# Altium footprint library MainPcblib.PcbLib: 316 footprints (part 5 of 20)
Each footprint in its own frame and in the unit in brackets; x right, y up, seen from the top. Pads: shape width x height; smd on the part's side, far side on the other; paste and mask are expansions set on the pad; w line width, h text height; cw(c..) or ccw(c..) is an arc to the next point about the centre after c.
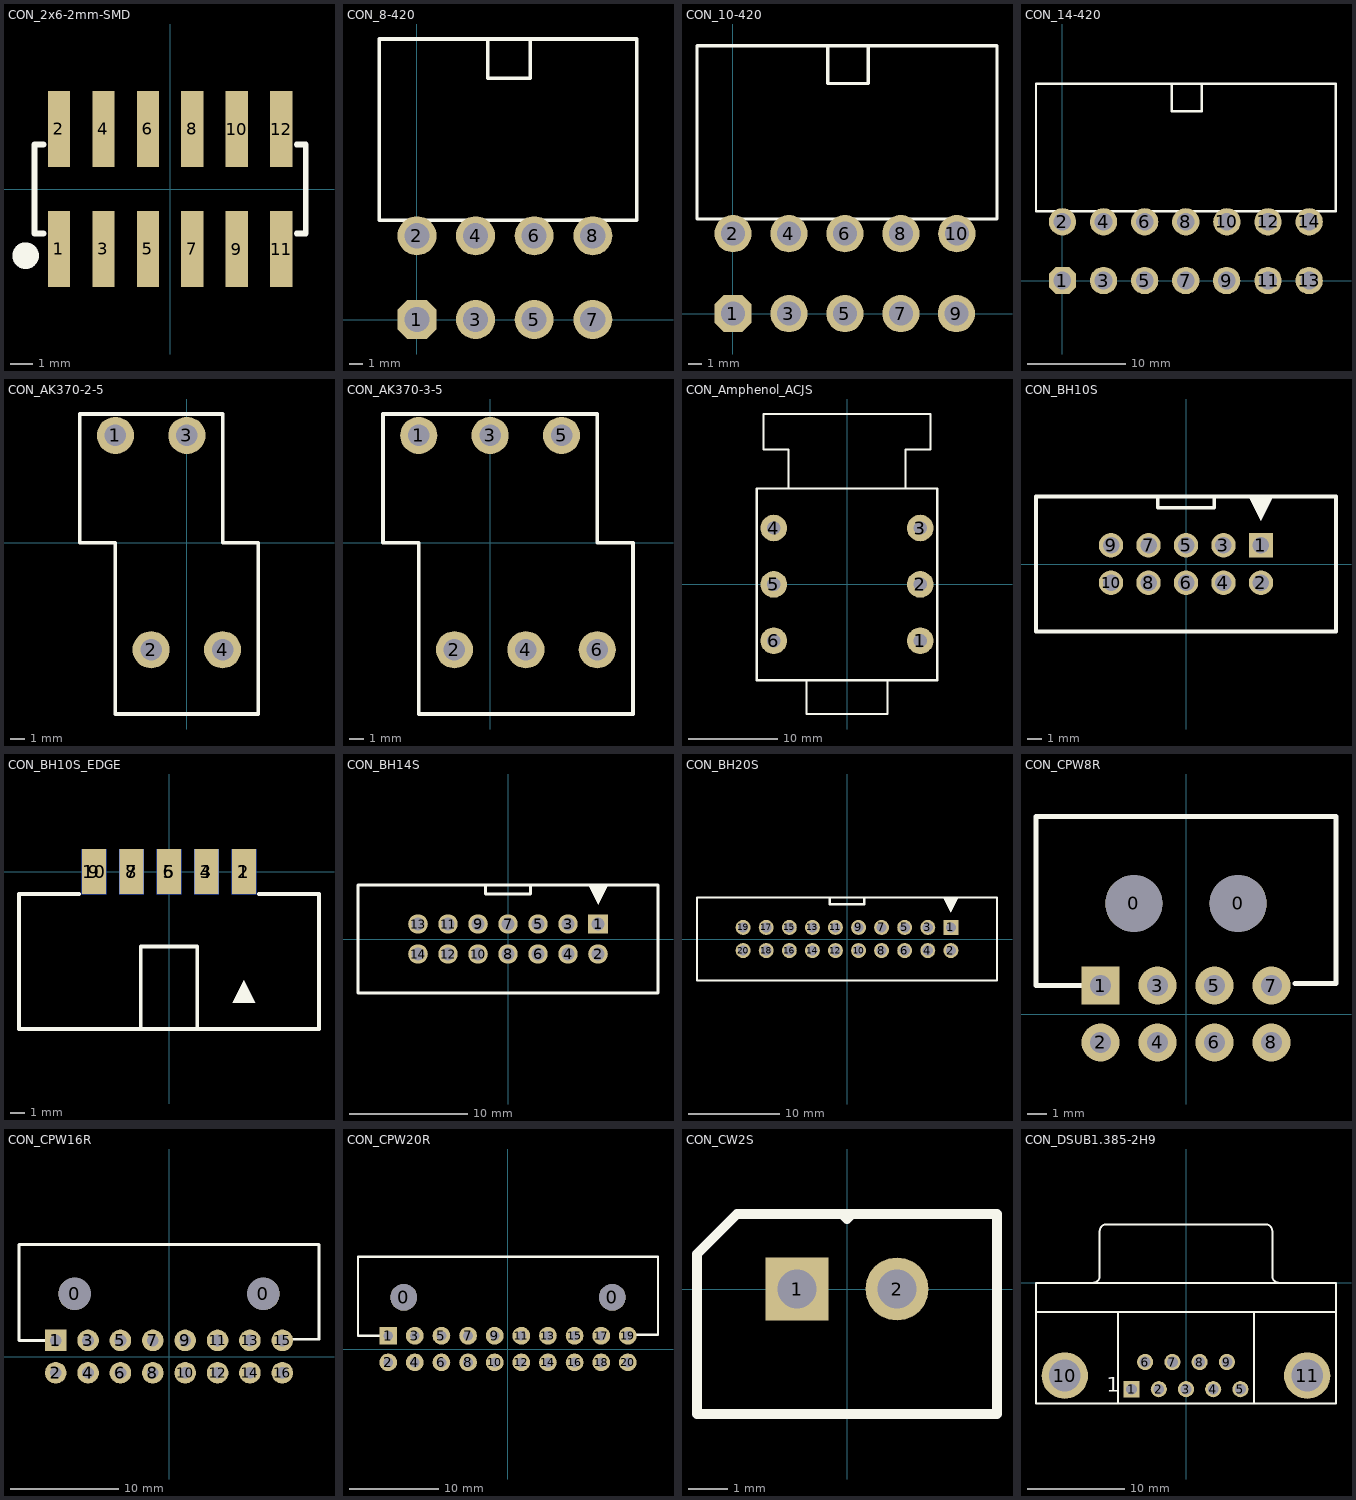
[diagram p4: the footprints below, top view; thin cyan lines are the x and y axes]

## CON_2x6-2mm-SMD [mm]
pads (12):
  rect 1x3.4 smd paste+0: 1(-5,-2.7)
  rect 1x3.4 smd: 2(-5,2.7) 3(-3,-2.7) 4(-3,2.7) 5(-1,-2.7) 6(-1,2.7) 7(1,-2.7) 8(1,2.7) 9(3,-2.7) 10(3,2.7) 11(5,-2.7) 12(5,2.7)
Top Overlay:
  circle w0.6: c-6.5,-3 r0.3
  lines w0.254: -5.7,-2 -6.1,-2 -6.1,2 -5.7,2 ; 5.7,-2 6.1,-2 6.1,2 5.7,2

## CON_8-420 [mm]
pads (8):
  oct 2.794x2.794 hole 1.8: 1(0,0)
  round 2.794 hole 1.8: 2(0,6) 3(4.2,0) 4(4.2,6) 5(8.4,0) 6(8.4,6) 7(12.6,0) 8(12.6,6)
Top Overlay:
  lines w0.254: 5.08,20.052 5.08,17.272 8.128,17.272 8.128,20.1 ; 15.744,20.1 15.744,7.1 -2.7,7.1 -2.7,20.1 15.748,20.1

## CON_10-420 [mm]
pads (10):
  oct 2.794x2.794 hole 1.8: 1(0,0)
  round 2.794 hole 1.8: 2(0,6) 3(4.2,0) 4(4.2,6) 5(8.4,0) 6(8.4,6) 7(12.6,0) 8(12.6,6) 9(16.764,0) 10(16.8,6)
Top Overlay:
  lines w0.254: 7.112,20.052 7.112,17.272 10.16,17.272 10.16,20.1 ; 19.808,20.1 19.808,7.1 -2.7,7.1 -2.7,20.1 19.812,20.1

## CON_14-420 [mil]
pads (14):
  oct 110x110 hole 70.87: 1(0,0)
  round 110 hole 70.87: 2(0,236.22) 3(165.35,0) 4(165.35,236.22) 5(330.71,0) 6(330.71,236.22) 7(496.06,0) 8(496.06,236.22) 9(660,0) 10(661.42,236.22) 11(826.66,0) 12(826.66,236.22) 13(992.12,0) 14(992.12,236.22)
Top Overlay:
  lines w10: 440,789.45 440,680 560,680 560,791.34 ; 1099.84,791.34 1099.84,279.53 -106.3,279.53 -106.3,791.34 1100,791.34

## CON_AK370-2-5 [mm]
pads (4):
  round 2.6 hole 1.5: 1(-5,7.5) 2(-2.5,-7.5) 3(0,7.5) 4(2.5,-7.5)
Top Overlay:
  lines w0.254: -7.5,0 -7.5,9 2.5,9 2.5,0 5,0 5,-12 -5,-12 -5,-3 -5,0 -7.5,0

## CON_AK370-3-5 [mm]
pads (6):
  round 2.6 hole 1.5: 1(-5,7.5) 2(-2.5,-7.5) 3(0,7.5) 4(2.5,-7.5) 5(5,7.5) 6(7.5,-7.5)
Top Overlay:
  lines w0.254: -7.5,0 -5,0 -5,-3 -5,-12 10,-12 10,0 7.5,0 7.5,9 -7.5,9 -7.5,0

## CON_Amphenol_ACJS [mm] "1/4in audio socket"
height 17
pads (6):
  round 3 hole 1.5: 1(8.255,-6.35) 2(8.255,0) 3(8.255,6.35) 4(-8.255,6.35) 5(-8.255,0) 6(-8.255,-6.35)
Top Overlay:
  lines w0.254: -6.6,10.795 -6.6,15.2 ; -6.6,15.2 -9.4,15.2 -9.4,19.2 9.4,19.2 9.4,15.2 6.6,15.2 ; -4.572,-10.795 -4.572,-14.605 4.572,-14.605 4.572,-10.795 ; 6.6,10.795 6.6,15.2 ; -10.16,-10.795 -10.16,10.795 10.16,10.795 10.16,-10.795 -10.16,-10.795

## CON_BH10S [mil] "BH-10"
height 472.44
pads (10):
  rect 65x65 hole 44: 1(200,50)
  round 65 hole 44: 2(200,-50) 3(100,50) 4(100,-50) 5(0,50) 6(0,-50) 7(-100,50) 8(-100,-50) 9(-200,50) 10(-200,-50)
Top Overlay:
  region: 200,115 230,175 170,175
  lines w9.84: -75,180 -75,150 75,150 75,180 ; -400,-180 400,-180 400,180 -400,180 -400,-180

## CON_BH10S_EDGE [mil] "BH-10 mounted on the board edge"
pads (10):
  rect 65x120 smd: 1(200,0) 3(100,0) 5(0,0) 7(-100,0) 9(-200,0)
  rect 65x120 smd far side: 2(200,0) 4(100,0) 6(0,0) 8(-100,0) 10(-200,0)
Top Overlay:
  region: 200,-290 170,-350 230,-350
  lines w9.84: -240,-60 -400,-60 -400,-420 400,-420 400,-60 240,-60 ; -75,-420 -75,-200 75,-200 75,-420

## CON_BH14S [mil] "BH-14"
height 472.44
pads (14):
  rect 65x65 hole 44: 1(300,50)
  round 65 hole 44: 2(300,-50) 3(200,50) 4(200,-50) 5(100,50) 6(100,-50) 7(0,50) 8(0,-50) 9(-100,50) 10(-100,-50) 11(-200,50) 12(-200,-50) 13(-300,50) 14(-300,-50)
Top Overlay:
  region: 300,115 330,175 270,175
  lines w9.84: -75,180 -75,150 75,150 75,180 ; -500,-180 -500,180 500,180 500,-180 -500,-180

## CON_BH20S [mil]
height 472.44
pads (20):
  rect 65x65 hole 44: 1(450,50)
  round 65 hole 44: 2(450,-50) 3(350,50) 4(350,-50) 5(250,50) 6(250,-50) 7(150,50) 8(150,-50) 9(50,50) 10(50,-50) 11(-50,50) 12(-50,-50) 13(-150,50) 14(-150,-50) 15(-250,50) 16(-250,-50) 17(-350,50) 18(-350,-50) 19(-450,50) 20(-450,-50)
Top Overlay:
  region: 450,115 480,175 420,175
  lines w9.84: -75,180 -75,150 75,150 75,180 ; -650,-180 -650,180 650,180 650,-180 -650,-180

## CON_CPW8R [mm] "CON_CPW"
pads (10):
  round 3 hole 3: 0(-2.75,5.82) 0(2.75,5.82)
  rect 2x2 hole 1.1: 1(-4.5,1.5)
  round 2 hole 1.1: 2(-4.5,-1.5) 3(-1.5,1.5) 4(-1.5,-1.5) 5(1.5,1.5) 6(1.5,-1.5) 7(4.5,1.5) 8(4.5,-1.5)
Top Overlay:
  lines w0.254: -5.4,1.5 -7.9,1.5 -7.9,10.4 7.9,10.4 7.9,1.6 5.746,1.6

## CON_CPW16R [mm] "CON_CPW"
pads (18):
  round 3 hole 3: 0(-8.75,5.82) 0(8.75,5.82)
  rect 2x2 hole 1.1: 1(-10.5,1.5)
  round 2 hole 1.1: 2(-10.5,-1.5) 3(-7.5,1.5) 4(-7.5,-1.5) 5(-4.5,1.5) 6(-4.5,-1.5) 7(-1.5,1.5) 8(-1.5,-1.5) 9(1.5,1.5) 10(1.5,-1.5) 11(4.5,1.5) 12(4.5,-1.5) 13(7.5,1.5) 14(7.5,-1.5) 15(10.5,1.5) 16(10.5,-1.5)
Top Overlay:
  lines w0.254: -11.4,1.5 -13.9,1.5 -13.9,10.4 13.9,10.4 13.9,1.6 11.4,1.6

## CON_CPW20R [mm] "CON_CPW"
pads (22):
  round 3 hole 3: 0(-11.75,5.82) 0(11.75,5.82)
  rect 2x2 hole 1.1: 1(-13.5,1.5)
  round 2 hole 1.1: 2(-13.5,-1.5) 3(-10.5,1.5) 4(-10.5,-1.5) 5(-7.5,1.5) 6(-7.5,-1.5) 7(-4.5,1.5) 8(-4.5,-1.5) 9(-1.5,1.5) 10(-1.5,-1.5) 11(1.5,1.5) 12(1.5,-1.5) 13(4.5,1.5) 14(4.5,-1.5) 15(7.5,1.5) 16(7.5,-1.5) 17(10.5,1.5) 18(10.5,-1.5) 19(13.5,1.5) 20(13.5,-1.5)
Top Overlay:
  lines w0.254: -14.4,1.5 -16.9,1.5 -16.9,10.4 16.9,10.4 16.9,1.6 14.4,1.6

## CON_CW2S [mm] "2.50mm connector, PCB mount, mate with CU2"
pads (2):
  rect 1.6x1.6 hole 1: 1(-1.27,0)
  round 1.6 hole 1: 2(1.27,0)
Top Overlay:
  lines w0.254: -0.127,1.905 0,1.778 0.127,1.905 ; -3.81,-3.175 -3.81,0 -3.81,0.889 -2.794,1.905 3.81,1.905 3.81,-3.175 -3.81,-3.175

## CON_DSUB1.385-2H9 [mil]
pads (11):
  rect 65x65 hole 44: 1(-220,-430)
  round 65 hole 44: 2(-110,-430) 3(0,-430) 4(110,-430) 5(220,-430) 6(-165,-320) 7(-55,-320) 8(55,-320) 9(165,-320)
  round 187.4 hole 128.35: 10(-490,-375) 11(490,-375)
Top Overlay:
  lines w7.87: -606.3,-118.11 606.3,-118.11 ; -376.38,0.2 ccw(c-376.38,27.56) -349.02,27.56 -349.02,208.66 ; -348.82,208.86 cw(c-321.46,208.86) -321.46,236.22 321.46,236.22 cw(c321.46,208.86) 348.82,208.86 ; -275.59,-488.19 -275.59,-118.11 ; 275.59,-488.19 275.59,-118.11 ; 349.02,208.66 349.02,27.56 ccw(c376.38,27.56) 376.38,0.2 ; -606.3,-488.19 -606.3,0 606.3,0 606.3,-488.19 -606.3,-488.19
  text "1" at -320,-440 h59.06